# Altium footprint library MUSBRM1C130.PcbLib: 1 footprints
Each footprint in its own frame and in the unit in brackets; x right, y up, seen from the top. Pads: shape width x height; smd on the part's side, far side on the other; paste and mask are expansions set on the pad; w line width, h text height; cw(c..) or ccw(c..) is an arc to the next point about the centre after c.
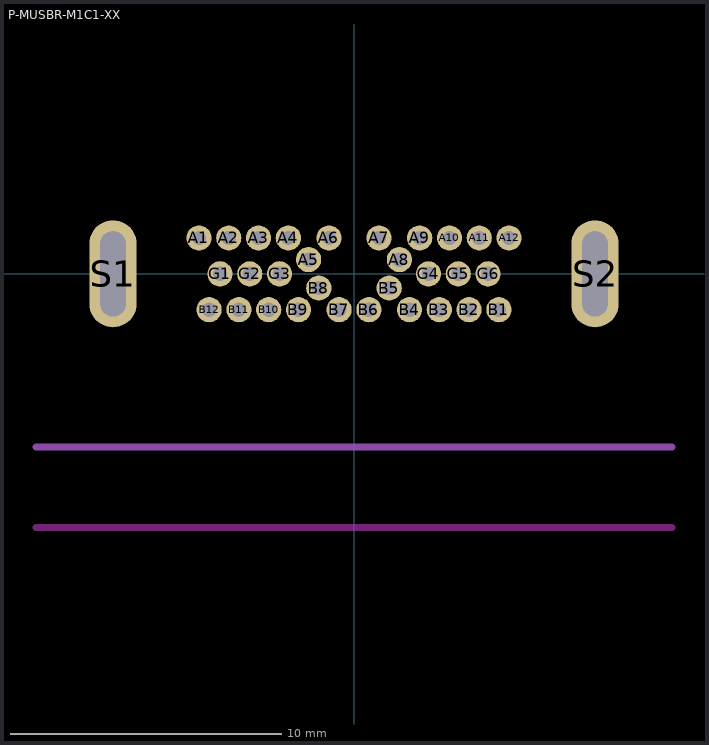
[diagram p0: the footprint, top view; thin cyan lines are the x and y axes]

## P-MUSBR-M1C1-XX [mm] "RUGGED USB TYPE 'C' RECEPTACLE, RIGHT ANGLE, PCB MOUNT"
pads (32):
  round 0.93 hole 0.53: A1(-5.725,1.325) A2(-4.625,1.325) A3(-3.525,1.325) A4(-2.425,1.325) A5(-1.675,0.525) A6(-0.925,1.325) A7(0.925,1.325) A8(1.675,0.525) A9(2.425,1.325) A10(3.525,1.325) A11(4.625,1.325) A12(5.725,1.325) B1(5.35,-1.325) B2(4.25,-1.325) B3(3.15,-1.325) B4(2.05,-1.325) B5(1.3,-0.525) B6(0.55,-1.325) B7(-0.55,-1.325) B8(-1.3,-0.525) B9(-2.05,-1.325) B10(-3.15,-1.325) B11(-4.25,-1.325) B12(-5.35,-1.325) G1(-4.95,0) G2(-3.85,0) G3(-2.75,0) G4(2.75,0) G5(3.85,0) G6(4.95,0)
  oval 1.75x3.95 hole 0.95 slot 3.15 at 90 deg: S1(-8.9,0) S2(8.9,0)
Keep-Out Layer:
  lines w0.254: -11.75,-9.373 11.75,-9.373
Mechanical 1:
  lines w0.254: -11.75,-6.39 11.75,-6.39
3D body: height 7.55, standoff -3.1, extent -11.75,-11.844 11.75,3.106